# Altium schematic symbol library 104224-0820.SchLib: 1 symbol
Pins are listed as number, name and electrical type; pins without a type are passive.

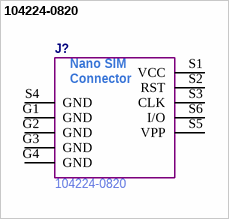
[diagram p0: symbol 104224-0820]

## 104224-0820
designator J?  Manufacturer Part Number: 104224-0820  (hidden comment: *)
pins: G1 GND, G2 GND, G3 GND, G4 GND, S1 VCC, S2 RST, S3 CLK, S4 GND, S5 VPP, S6 I/O
text: Nano SIM; Connector